# Altium schematic symbol library W25Q16JVUXIQ TR.SchLib: 1 symbol
Pins are listed as number, name and electrical type; pins without a type are passive.

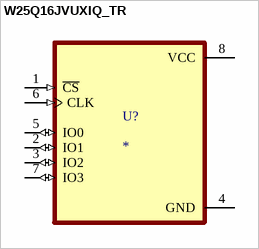
[diagram p0: symbol W25Q16JVUXIQ_TR]

## W25Q16JVUXIQ_TR
designator U?
MF: {'manufacturer': u'Winbond'}; MP: W25Q16JVUXIQ TR; Package: None; Price: None; Value: *; Availability: Unavailable
footprint PSON50P300X200X60-9N
pins: 1 ~{CS} (in), 2 IO1 (io), 3 IO2 (io), 4 GND (power), 5 IO0 (io), 6 CLK (in), 7 IO3 (io), 8 VCC (power)